# Altium footprint library PcbLib1.PcbLib: 8 footprints
Each footprint in its own frame and in the unit in brackets; x right, y up, seen from the top. Pads: shape width x height; smd on the part's side, far side on the other; paste and mask are expansions set on the pad; w line width, h text height; cw(c..) or ccw(c..) is an arc to the next point about the centre after c.
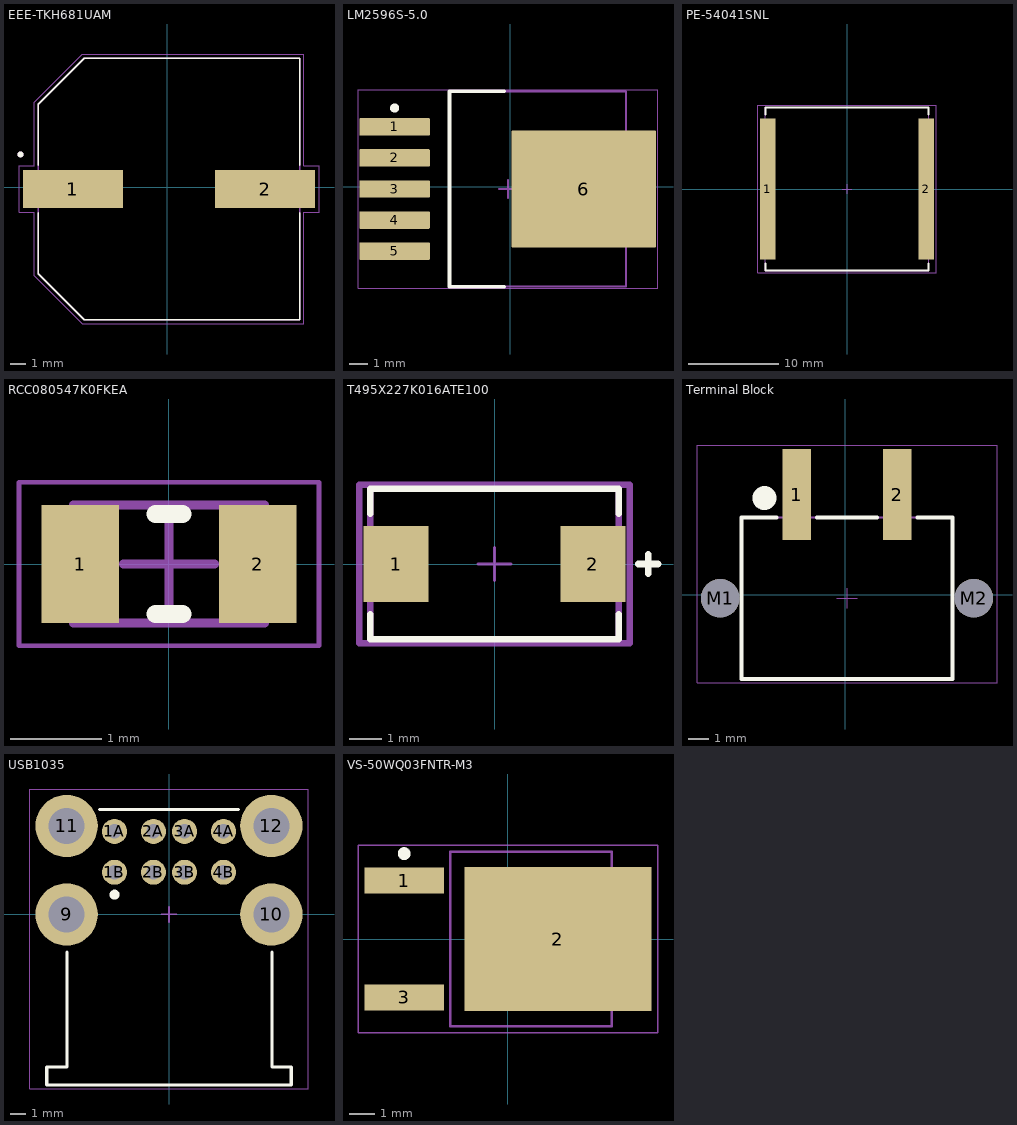
[diagram p0: the footprints below, top view; thin cyan lines are the x and y axes]

## EEE-TKH681UAM [mm]
pads (2):
  rect 6.5x2.5 smd: 1(-6.123,-0.127) 2(6.377,-0.127)
Top Overlay:
  circle w0.2: c-9.523,2.123 r0.1
  lines w0.127: -8.373,-1.697 -8.373,-5.627 -5.373,-8.627 8.627,-8.627 8.627,-1.697 ; -8.373,1.443 -8.373,5.373 -5.373,8.373 8.627,8.373 8.627,1.443
Mechanical 13:
  circle w0.2: c-9.523,2.123 r0.1
  lines w0.127: -8.373,-5.627 -5.373,-8.627 8.627,-8.627 8.627,8.373 -5.373,8.373 -8.373,5.373 -8.373,-5.627
Mechanical 15:
  lines w0.05: -9.623,-1.627 -9.623,1.373 -8.623,1.373 -8.623,5.498 -5.498,8.623 8.877,8.623 8.877,1.373 9.877,1.373 9.877,-1.627 8.877,-1.627 8.877,-8.877 -5.498,-8.877 -8.623,-5.752 -8.623,-1.627 -9.623,-1.627
3D body "step_temp.STEP": height 16.5, standoff 0, extent -9.073,-8.627 9.327,8.373

## LM2596S-5.0 [mm]
pads (6):
  rrect11% 3.85x0.95 smd: 1(-6.327,3.273) 2(-6.327,1.573) 3(-6.327,-0.127) 4(-6.327,-1.827) 5(-6.327,-3.527)
  rrect2% 7.9x6.4 smd: 6(4.023,-0.127)
Top Overlay:
  circle w0.25: c-6.327,4.298 r0.125
  lines w0.2: -0.327,-5.477 -3.327,-5.477 -3.327,5.223 -0.327,5.223
Mechanical 1:
  text ".Designator" at -2.032,-0.635 h1.3
Mechanical 13:
  lines w0.1: -3.327,-5.452 -3.327,5.198 6.323,5.198 6.323,-5.452 -3.327,-5.452
Mechanical 15:
  lines w0.05: -8.327,-5.552 -8.327,5.298 8.073,5.298 8.073,-5.552 -8.327,-5.552
  lines w0.1: -0.627,-0.127 0.373,-0.127 ; -0.127,-0.627 -0.127,0.373
3D body "LM2596DS.step": height 4.52, standoff -0.06, extent -6.482,-5.127 6.26,4.873

## PE-54041SNL [mm] "Precision Wire Wound Inductor, 2-Leads, Body 17.50x17.50mm, IPC Medium Density"
height 10
pads (2):
  rect 1.7x15.6 smd: 1(-8.75,0) 2(8.75,0)
Top Overlay:
  lines w0.2: -9,-8.2 -9,-9 9,-9 9,-8.2 ; -9,8.2 -9,9 9,9 9,8.2
Top Courtyard:
  lines w0.05: -9.825,-9.25 9.825,-9.25 9.825,9.25 -9.825,9.25 -9.825,-9.25
  lines w0.1: -0.5,0 0.5,0 ; 0,-0.5 0,0.5
Top Assembly:
  lines w0.1: -9,-9 9,-9 9,9 -9,9 -9,-9
3D body "LCI-50.STEP": height 9.59, standoff 0.01, extent -8.382,-8.255 8.128,9.144

## RCC080547K0FKEA [mm] "Chip Resistor, 2-Leads, Body 2.00x1.25mm, IPC Medium Density"
height 0.6
pads (2):
  rect 0.85x1.3 smd: 1(-0.975,0) 2(0.975,0)
Top Overlay:
  lines w0.2: -0.15,-0.55 0.15,-0.55 ; -0.15,0.55 0.15,0.55
Top Courtyard:
  lines w0.05: -1.65,-0.9 -1.65,0.9 1.65,0.9 1.65,-0.9 -1.65,-0.9
  lines w0.1: -0.5,0 0.5,0 ; 0,-0.5 0,0.5
Top Assembly:
  lines w0.1: -1.05,-0.65 -1.05,0.65 1.05,0.65 1.05,-0.65 -1.05,-0.65
3D body "RESC2012X06N.step": height 0.6, standoff 0, extent -1.05,-0.65 1.05,0.65

## T495X227K016ATE100 [mm]
pads (2):
  rect 1.99x2.33 smd paste+0 mask+0: 1(-3.01,0) 2(3.01,0)
Top Overlay:
  lines w0.2: -3.8,-1.54 -3.8,-2.3 3.8,-2.3 3.8,-1.54 ; -3.8,1.54 -3.8,2.3 3.8,2.3 3.8,1.54 ; 4.4,0 5,0 ; 4.7,-0.3 4.7,0.3
Top 3D Body:
  lines w0.2: -3.8,-2.3 3.8,-2.3 3.8,2.3 -3.8,2.3 -3.8,-2.3
Top Courtyard:
  lines w0.2: -4.13,-2.42 4.13,-2.42 ; -4.13,-2.42 -4.13,2.42 ; -4.13,-2.42 -4.13,2.42 ; -4.13,-2.42 4.13,-2.42 ; -4.13,2.42 4.13,2.42 ; -4.13,2.42 4.13,2.42 ; 4.13,-2.42 4.13,2.42 ; 4.13,-2.42 4.13,2.42
Top Assembly:
  text ".Designator" at 0,-0.001 h1
Top Component Center:
  lines w0.1: -0.5,0 0.5,0 ; 0,-0.5 0,0.5
3D body "Cap_Kemet_T495X477K010ATE100_eec.STEP": height 0.25, standoff 0, extent -4.13,-2.42 4.13,2.42

## Terminal Block [mm]
pads (4):
  rect 1.4x4.5 smd: 1(-2.411,4.973) 2(2.589,4.973)
  round 1.9 hole 1.9 unplated: M1(-6.211,-0.177) M2(6.389,-0.177)
Top Overlay:
  circle w0.8: c-4.011,4.798 r0.193
  lines w0.2: -3.411,3.823 -5.161,3.823 -5.161,-4.177 5.339,-4.177 5.339,3.823 3.589,3.823 ; -1.411,3.823 1.589,3.823
Mechanical 13:
  lines w0.1: -2.911,3.823 -2.911,6.823 -1.911,6.823 -1.911,3.823 ; 2.089,3.823 2.089,6.823 3.089,6.823 3.089,3.823 ; -5.161,-4.177 5.339,-4.177 5.339,3.823 -5.161,3.823 -5.161,-4.177
Mechanical 15:
  lines w0.05: -0.411,-0.177 0.589,-0.177 ; 0.089,-0.677 0.089,0.323 ; -7.361,-4.377 7.539,-4.377 7.539,7.423 -7.361,7.423 -7.361,-4.377
3D body "691709710302.stp": height 9.95, standoff -1.75, extent -6.911,-4.177 7.089,6.823

## USB1035 [mm]
pads (12):
  round 1.6 hole 0.92: 1A(-3.5,5.33) 1B(-3.5,2.71) 2A(-1,5.33) 2B(-1,2.71) 3A(1,5.33) 3B(1,2.71) 4A(3.5,5.33) 4B(3.5,2.71)
  round 4 hole 2.3: 9(-6.57,0) 10(6.57,0) 11(-6.57,5.68) 12(6.57,5.68)
Top Overlay:
  circle w0.4: c-3.495,1.27 r0.12
  lines w0.2: -6.536,-2.413 -6.536,-9.779 -7.849,-9.779 -7.849,-10.947 7.849,-10.947 7.849,-9.779 6.604,-9.779 6.604,-2.413 ; -4.445,6.731 4.445,6.731
Mechanical 15:
  lines w0.05: -8.941,-11.201 8.941,-11.201 8.941,8.052 -8.941,8.052 -8.941,-11.201
  lines w0.1: -0.5,0 0.5,0 ; 0,-0.5 0,0.5
3D body "USB1035-15-P-1-W-B.stp": height 16.17, standoff -3.83, extent -7.862,-11.094 7.864,6.586

## VS-50WQ03FNTR-M3 [mm] "D-PAK, 3-Pads, Body 6.25x6.76mm (max), IPC Medium Density"
height 2.5
pads (3):
  rect 3.1x1 smd: 1(-4.05,2.28) 3(-4.05,-2.28)
  rect 7.3x5.6 smd: 2(1.95,0)
Top Overlay:
  circle w0.25: c-4.05,3.33 r0.125
Top Courtyard:
  lines w0.05: -5.85,-3.65 -5.85,3.65 5.85,3.65 5.85,-3.65 -5.85,-3.65
  lines w0.1: -0.5,0 0.5,0 ; 0,-0.5 0,0.5
Top Assembly:
  lines w0.1: -2.25,-3.4 -2.25,3.4 4.05,3.4 4.05,-3.4 -2.25,-3.4
3D body "DPAK228P990X250-3N.step": height 2.5, standoff 0, extent -4.4,-3.4 5.5,3.4